# EAGLE library part CD4021B_NS_16 (library cyberhedz)
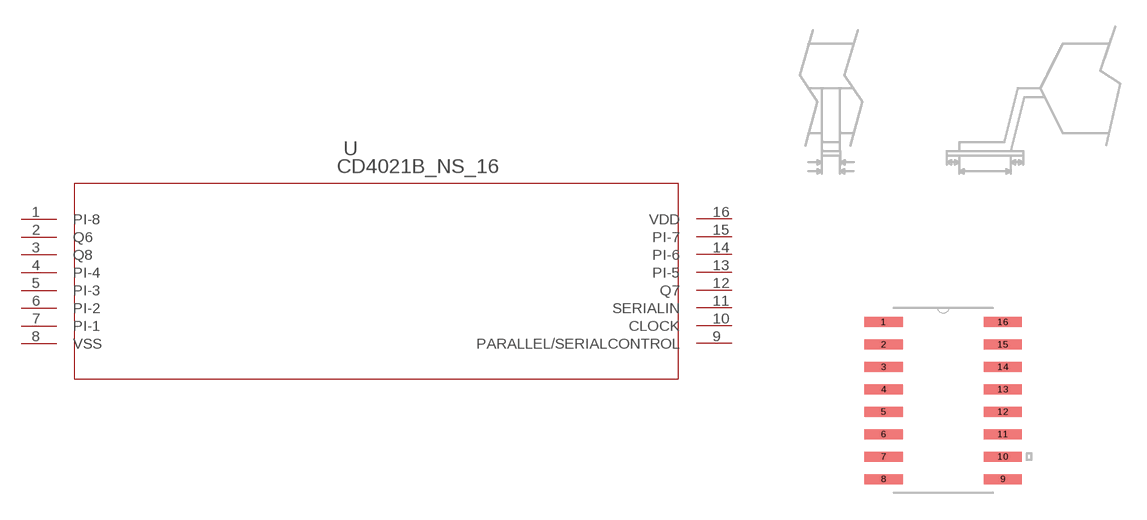
[diagram p7: symbol with the pads of NS16; footprint NS16]

Designator prefix U

## CD4021B_NS_16 (DATASHEETURL: http://www.ti.com/lit/gpn/CD4021B; DESCRIPTION: CMOS 8-Stage Static Shift Register; FAMILY_NAME: SHIFT REGISTER; GENERIC_PART_NUMBER: CD4021B; INDUSTRY_STD_PKG_TYPE: SO; MANUFACTURER: Texas Instruments; PACKAGE_DESIGNATOR: NS; PIN_COUNT: 16)  [NS16]
1  PI-8  pas
2  Q6  pas
3  Q8  pas
4  PI-4  pas
5  PI-3  pas
6  PI-2  pas
7  PI-1  pas
8  VSS  pwr
9  PARALLEL/SERIALCONTROL  pas
10  CLOCK  pas
11  SERIALIN  in
12  Q7  pas
13  PI-5  pas
14  PI-6  pas
15  PI-7  pas
16  VDD  pwr

## Footprint NS16 (pad centres in mm)
smd 2.159 x 0.559: 1 -3.378,4.445; 2 -3.378,3.175; 3 -3.378,1.905; 4 -3.378,0.635; 5 -3.378,-0.635; 6 -3.378,-1.905; 7 -3.378,-3.175; 8 -3.378,-4.445; 9 3.378,-4.445; 10 3.378,-3.175; 11 3.378,-1.905; 12 3.378,-0.635; 13 3.378,0.635; 14 3.378,1.905; 15 3.378,3.175; 16 3.378,4.445